# EAGLE library part PORT_HDR (library ZMPLC)
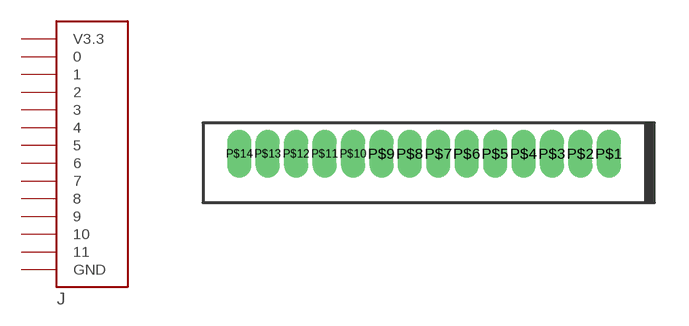
[diagram p1: symbol with the pads of PICOBLADE14; footprint PICOBLADE14]

Designator prefix J

## PORT_HDR  [PICOBLADE14]
P$1  V3.3  pas
P$2  0
P$3  1
P$4  2
P$5  3
P$6  4
P$7  5
P$8  6
P$9  7
P$10  8
P$11  9
P$12  10
P$13  11
P$14  GND  pas

## Footprint PICOBLADE14 (pad centres in mm)
drill 0.55 long: P$1 0,0; P$2 -1.25,0; P$3 -2.5,0; P$4 -3.75,0; P$5 -5,0; P$6 -6.25,0; P$7 -7.5,0; P$8 -8.75,0; P$9 -10,0; P$10 -11.25,0; P$11 -12.5,0; P$12 -13.75,0; P$13 -15,0; P$14 -16.25,0